# Altium footprint library XINGLIGHT_XL-1615RGBC-WS2812B-S.PcbLib: 1 footprints
Each footprint in its own frame and in the unit in brackets; x right, y up, seen from the top. Pads: shape width x height; smd on the part's side, far side on the other; paste and mask are expansions set on the pad; w line width, h text height; cw(c..) or ccw(c..) is an arc to the next point about the centre after c.
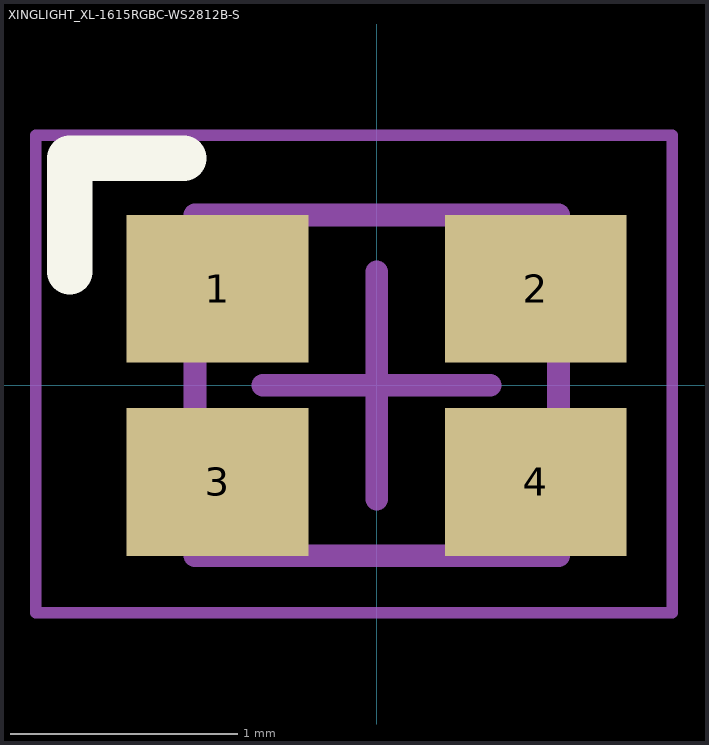
[diagram p0: the footprint, top view; thin cyan lines are the x and y axes]

## XINGLIGHT_XL-1615RGBC-WS2812B-S [mm]
pads (4):
  rect 0.8x0.65 smd: 1(-0.7,0.425) 2(0.7,0.425) 3(-0.7,-0.425) 4(0.7,-0.425)
Top Overlay:
  lines w0.2: -1.35,0.5 -1.35,1 -0.85,1
Mechanical 13:
  lines w0.1: -0.8,-0.75 -0.8,0.75 0.8,0.75 0.8,-0.75 -0.8,-0.75
Mechanical 15:
  lines w0.05: -1.5,-1 -1.5,1.1 1.3,1.1 1.3,-1 -1.5,-1
  lines w0.1: -0.5,0 0.5,0 ; 0,-0.5 0,0.5
3D body: height 0.6, standoff 0, extent -0.8,-0.75 0.8,0.75